# EAGLE library part PACKAGES-14 (library RASEagleLib)
14 Pin Packages
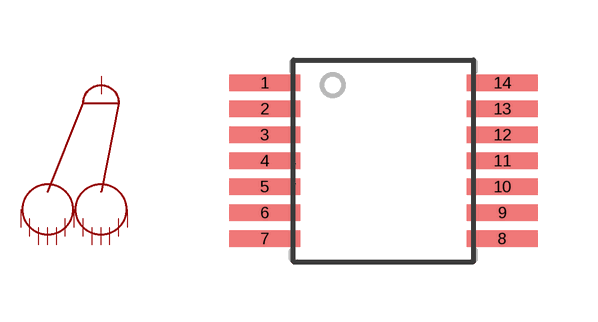
[diagram p6: symbol with the pads of TSSOP-14; footprint TSSOP-14]

Designator prefix -

## PACKAGES-14TSSOP  [TSSOP-14]
1  P$1
2  P$2
3  P$3
4  P$4
5  P$5
6  P$6
7  P$7
8  P$8
9  P$9
10  P$10
11  P$11
12  P$12
13  P$13
14  P$14

## Footprint TSSOP-14 (pad centres in mm)
smd 1.78 x 0.42: 1 -2.97,1.95; 2 -2.97,1.3; 3 -2.97,0.65; 4 -2.97,0; 5 -2.97,-0.65; 6 -2.97,-1.3; 7 -2.97,-1.95; 8 2.97,-1.95; 9 2.97,-1.3; 10 2.97,-0.65; 11 2.97,0; 12 2.97,0.65; 13 2.97,1.3; 14 2.97,1.95